# EAGLE library part HDSP-F*1 (library LED displeje)
LED displej 10 mm
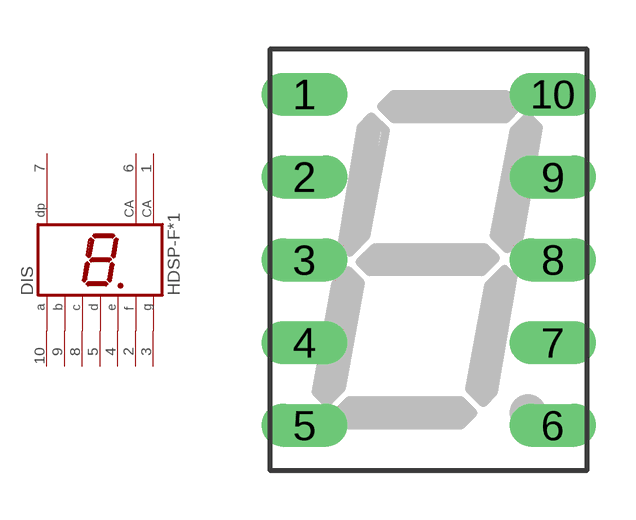
[diagram p48: symbol with the pads of HDSP-B; footprint HDSP-B]

Designator prefix DIS

## HDSP-F101, HDSP-F151, HDSP-F201, HDSP-F301, HDSP-F501  [HDSP-B]
1  CA  pas
2  F  pas
3  G  pas
4  E  pas
5  D  pas
6  CA  pas
7  DP  pas
8  C  pas
9  B  pas
10  A  pas

## Footprint HDSP-B (pad centres in mm)
drill 0.813 long: 1 -3.81,5.08; 2 -3.81,2.54; 3 -3.81,0; 4 -3.81,-2.54; 5 -3.81,-5.08; 6 3.81,-5.08; 7 3.81,-2.54; 8 3.81,0; 9 3.81,2.54; 10 3.81,5.08